# Altium schematic symbol library Power Wires.SchLib: 1 symbol
Pins are listed as number, name and electrical type; pins without a type are passive.

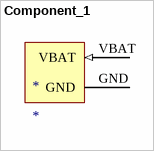
[diagram p0: symbol Component_1]

## Component_1
designator *
footprint Power Wires
pins: GND, VBAT (in)